# Altium footprint library SRcap.PcbLib: 1 footprints
Each footprint in its own frame and in the unit in brackets; x right, y up, seen from the top. Pads: shape width x height; smd on the part's side, far side on the other; paste and mask are expansions set on the pad; w line width, h text height; cw(c..) or ccw(c..) is an arc to the next point about the centre after c.
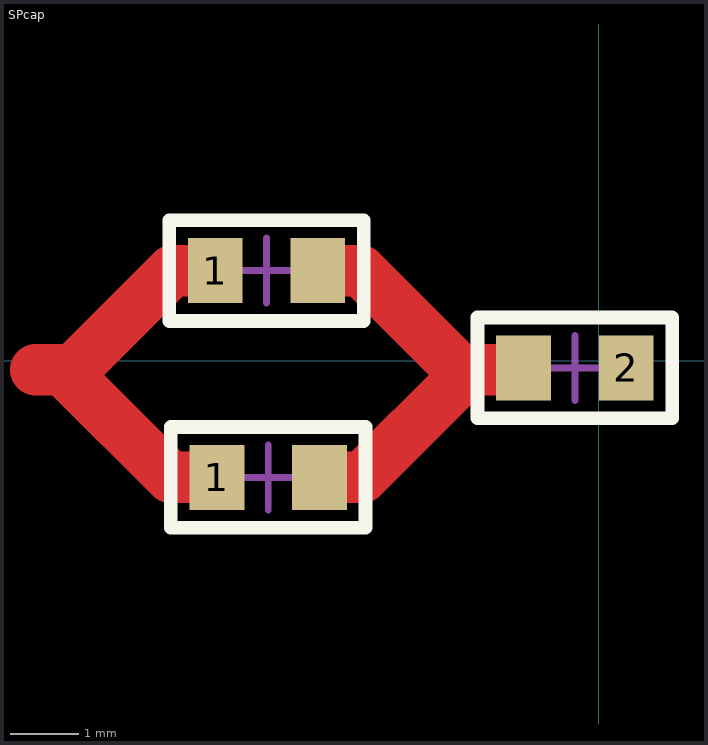
[diagram p0: the footprint, top view; thin cyan lines are the x and y axes]

## SPcap [mm]
pads (6):
  rect 0.8x0.95 smd: 1(-5.607,1.321) 1(-5.582,-1.702) 2(0.4,-0.102) ""(-4.107,1.321) ""(-4.082,-1.702) ""(-1.1,-0.102)
Top Layer:
  lines w0.75: -8.229,-0.127 -7.683,-0.127 -6.235,1.321 -5.607,1.321 ; -7.708,-0.254 -6.26,-1.702 -5.633,-1.702 ; -4.107,1.321 -3.48,1.321 -2.032,-0.127 -1.1,-0.127 ; -4.082,-1.702 -3.454,-1.702 -2.007,-0.254
Top Overlay:
  lines w0.2: -6.28,0.584 -3.435,0.584 -3.435,2.057 -6.28,2.057 -6.28,0.584 ; -6.254,-2.438 -6.254,-0.965 -3.41,-0.965 -3.41,-2.438 -6.254,-2.438 ; -1.772,-0.838 -1.772,0.635 1.073,0.635 1.073,-0.838 -1.772,-0.838
Mechanical 15:
  lines w0.1: -5.332,1.321 -4.382,1.321 ; -5.307,-1.702 -4.357,-1.702 ; -4.857,0.846 -4.857,1.796 ; -4.832,-2.177 -4.832,-1.227 ; -0.825,-0.102 0.125,-0.102 ; -0.35,-0.577 -0.35,0.373
3D body: height 0.44, standoff -0.03, extent -5.632,-2.108 -4.032,-1.308
3D body: height 0.44, standoff -0.03, extent -5.657,0.914 -4.057,1.714
3D body: height 0.44, standoff -0.03, extent -1.149,-0.508 0.451,0.292